# EAGLE library part SF72S006VBAR2500 (library SF72S006VBAR2500)
SF72 series, nano-SIM card connector, normail open type, 6 connector
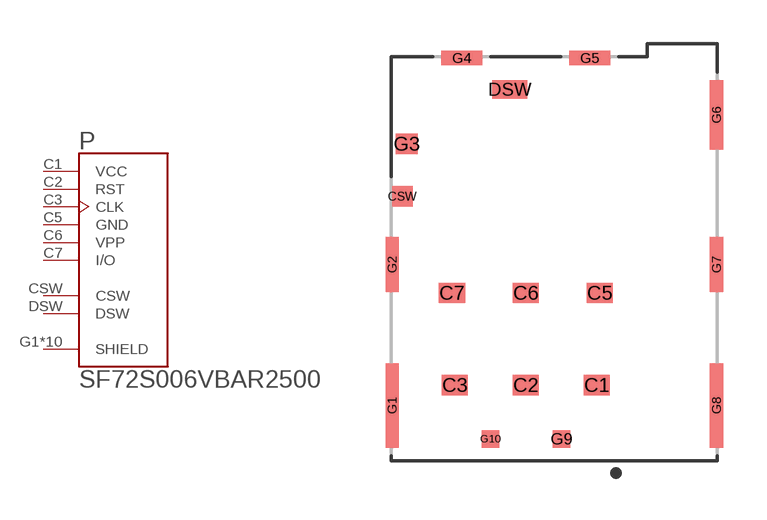
[diagram p0: symbol with the pads of JAE_SF72S006VBAR2500; footprint JAE_SF72S006VBAR2500]

Designator prefix P

## SF72S006VBAR2500 (Description: 8 (6 + 2) Position Card Connector NANO SIM Surface Mount, Right Angle Gold; Digi-Key_Part_Number: 670-2799-1-ND; MF: JAE Electronics; MP: SF72S006VBAR2500; Package: None; Purchase-URL: https://pricing.snapeda.com/search/part/SF72S006VBAR2500/?ref=eda)  [JAE_SF72S006VBAR2500]
C1  VCC  pwr
C2  RST
C3  CLK
C5  GND  pwr
C6  VPP  pwr
C7  I/O
CSW  CSW
DSW  DSW
G1  SHIELD  pas
G2  SHIELD  pas
G3  SHIELD  pas
G4  SHIELD  pas
G5  SHIELD  pas
G6  SHIELD  pas
G7  SHIELD  pas
G8  SHIELD  pas
G9  SHIELD  pas
G10  SHIELD  pas

## Footprint JAE_SF72S006VBAR2500 (pad centres in mm)
smd 0.9 x 0.7: C1 2.44,-4.575; C2 0,-4.575; C3 -2.44,-4.575; C5 2.54,-1.405; C6 0,-1.405; C7 -2.54,-1.405
smd 0.7 x 0.7: CSW -4.245,1.925
smd 1.2 x 0.65: DSW -0.55,5.6
smd 0.45 x 2.9: G1 -4.595,-5.275; G8 6.555,-5.275
smd 0.45 x 1.9: G2 -4.595,-0.425; G7 6.555,-0.425
smd 0.75 x 0.7: G3 -4.095,3.725
smd 1.4 x 0.5: G4 -2.2,6.675; G5 2.2,6.675
smd 0.45 x 2.4: G6 6.555,4.725
smd 0.6 x 0.6: G9 1.22,-6.425; G10 -1.22,-6.425